# EAGLE library part ADN4663 (library open-ephys)
dual 3v cmos to lvds, differential line driver
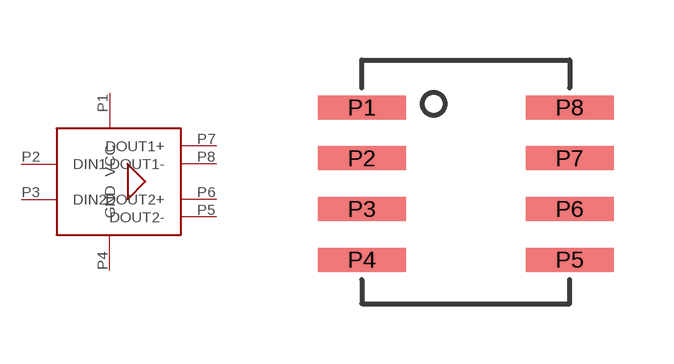
[diagram p19: symbol with the pads of 8-SOIC; footprint 8-SOIC]

Designator prefix -

## ADN4663  [8-SOIC]
P1  VCC
P2  DIN1
P3  DIN2
P4  GND
P5  DOUT2-
P6  DOUT2+
P7  DOUT1+
P8  DOUT1-

## Footprint 8-SOIC (pad centres in mm)
smd 2.2 x 0.6: P1 0,3.81; P2 0,2.54; P3 0,1.27; P4 0,0; P5 5.2,0; P6 5.2,1.27; P7 5.2,2.54; P8 5.2,3.81